# Altium integrated library opto-micro-linear.IntLib: 4 symbols
Pins are listed as number, name and electrical type; pins without a type are passive.

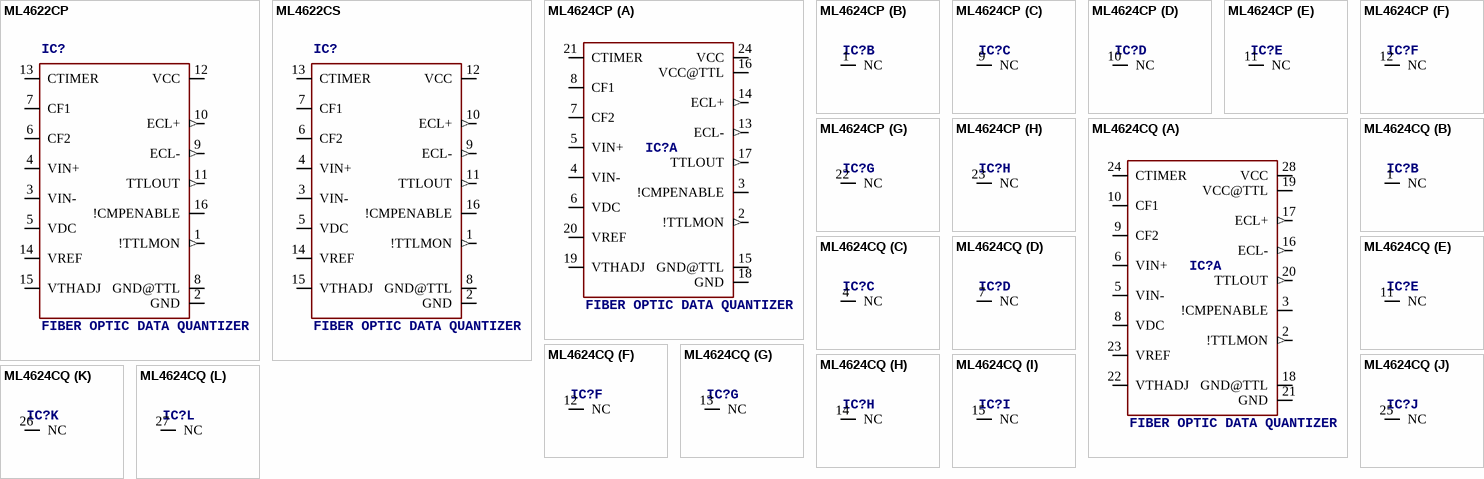
[diagram p0: symbols ML4622CP to ML4624CQ]

## ML4622CP
designator IC?, comment FIBER OPTIC DATA QUANTIZER
OC_FARNELL: unknown; OC_NEWARK: unknown
footprint DIL16
pins: 1 !TTLMON (out), 2 GND (power), 3 VIN-, 4 VIN+, 5 VDC, 6 CF2, 7 CF1, 8 GND@TTL (power), 9 ECL- (out), 10 ECL+ (out), 11 TTLOUT (out), 12 VCC (power), 13 CTIMER, 14 VREF, 15 VTHADJ, 16 !CMPENABLE

## ML4622CS
designator IC?, comment FIBER OPTIC DATA QUANTIZER
OC_FARNELL: unknown; OC_NEWARK: unknown
footprint SO16
pins: 1 !TTLMON (out), 2 GND (power), 3 VIN-, 4 VIN+, 5 VDC, 6 CF2, 7 CF1, 8 GND@TTL (power), 9 ECL- (out), 10 ECL+ (out), 11 TTLOUT (out), 12 VCC (power), 13 CTIMER, 14 VREF, 15 VTHADJ, 16 !CMPENABLE

## ML4624CP
designator IC?, comment FIBER OPTIC DATA QUANTIZER
OC_FARNELL: unknown; OC_NEWARK: unknown
footprint DIL24-3
part A pins: 2 !TTLMON (out), 3 !CMPENABLE, 4 VIN-, 5 VIN+, 6 VDC, 7 CF2, 8 CF1, 13 ECL- (out), 14 ECL+ (out), 15 GND@TTL (power), 16 VCC@TTL (power), 17 TTLOUT (out), 18 GND (power), 19 VTHADJ, 20 VREF, 21 CTIMER, 24 VCC (power)
part B pins: 1 NC
part C pins: 9 NC
part D pins: 10 NC
part E pins: 11 NC
part F pins: 12 NC
part G pins: 22 NC
part H pins: 23 NC

## ML4624CQ
designator IC?, comment FIBER OPTIC DATA QUANTIZER
OC_FARNELL: unknown; OC_NEWARK: unknown
footprint PLCC28S
part A pins: 2 !TTLMON (out), 3 !CMPENABLE, 5 VIN-, 6 VIN+, 8 VDC, 9 CF2, 10 CF1, 16 ECL- (out), 17 ECL+ (out), 18 GND@TTL (power), 19 VCC@TTL (power), 20 TTLOUT (out), 21 GND (power), 22 VTHADJ, 23 VREF, 24 CTIMER, 28 VCC (power)
part B pins: 1 NC
part C pins: 4 NC
part D pins: 7 NC
part E pins: 11 NC
part F pins: 12 NC
part G pins: 13 NC
part H pins: 14 NC
part I pins: 15 NC
part J pins: 25 NC
part K pins: 26 NC
part L pins: 27 NC